# EAGLE library part MAX6960 (library maxim)
MAX6960 8x8 LED Contriller - Thin QFN no leads
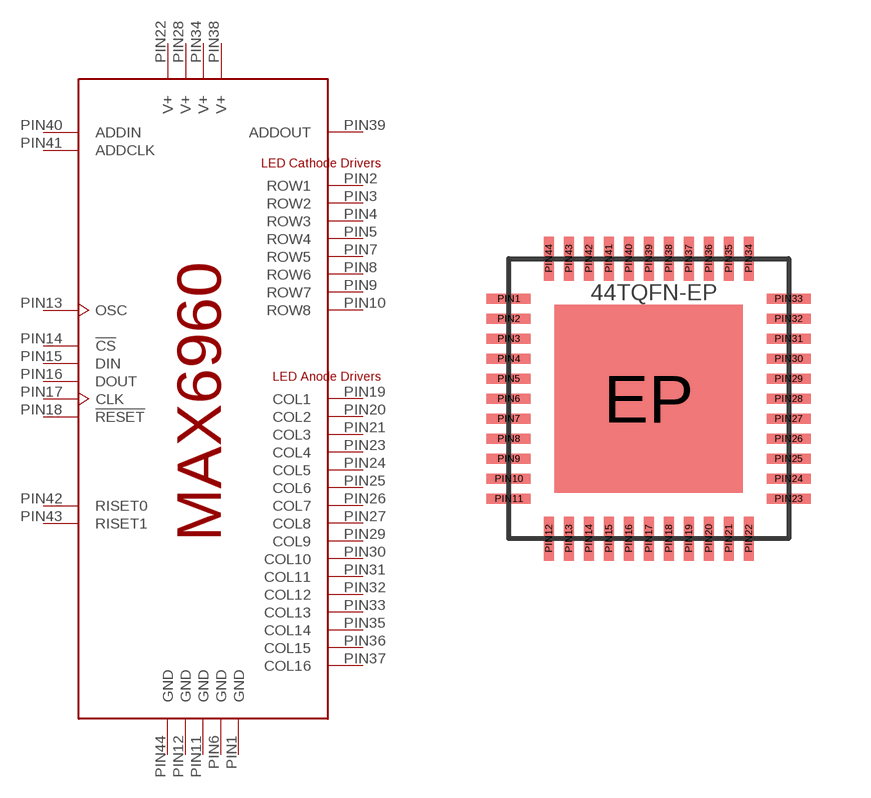
[diagram p0: symbol with the pads of 44TQFN-EP; footprint 44TQFN-EP]

Designator prefix -

## MAX6960  [44TQFN-EP]
PIN1  GND  pwr
PIN2  ROW1  out
PIN3  ROW2  out
PIN4  ROW3  out
PIN5  ROW4  out
PIN6  GND  pwr
PIN7  ROW5  out
PIN8  ROW6  out
PIN9  ROW7  out
PIN10  ROW8  out
PIN11  GND  pwr
PIN12  GND  pwr
PIN13  OSC  in
PIN14  !CS  in
PIN15  DIN  in
PIN16  DOUT  out
PIN17  CLK  in
PIN18  !RESET  in
PIN19  COL1  out
PIN20  COL2  out
PIN21  COL3  out
PIN22  V+  pwr
PIN23  COL4  out
PIN24  COL5  out
PIN25  COL6  out
PIN26  COL7  out
PIN27  COL8  out
PIN28  V+  pwr
PIN29  COL9  out
PIN30  COL10  out
PIN31  COL11  out
PIN32  COL12  out
PIN33  COL13  out
PIN34  V+  pwr
PIN35  COL14  out
PIN36  COL15  out
PIN37  COL16  out
PIN38  V+  pwr
PIN39  ADDOUT  out
PIN40  ADDIN  in
PIN41  ADDCLK
PIN42  RISET0  in
PIN43  RISET1  in
PIN44  GND  pwr

## Footprint 44TQFN-EP (pad centres in mm)
smd 4.7 x 4.7: EP 3.5,3.5
smd 1.1 x 0.25: PIN1 0,6; PIN2 0,5.5; PIN3 0,5; PIN4 0,4.5; PIN5 0,4; PIN6 0,3.5; PIN7 0,3; PIN8 0,2.5; PIN9 0,2; PIN10 0,1.5; PIN11 0,1; PIN23 7,1; PIN24 7,1.5; PIN25 7,2; PIN26 7,2.5; PIN27 7,3; PIN28 7,3.5; PIN29 7,4; PIN30 7,4.5; PIN31 7,5; PIN32 7,5.5; PIN33 7,6
smd 0.25 x 1.1: PIN12 1,0; PIN13 1.5,0; PIN14 2,0; PIN15 2.5,0; PIN16 3,0; PIN17 3.5,0; PIN18 4,0; PIN19 4.5,0; PIN20 5,0; PIN21 5.5,0; PIN22 6,0; PIN34 6,7; PIN35 5.5,7; PIN36 5,7; PIN37 4.5,7; PIN38 4,7; PIN39 3.5,7; PIN40 3,7; PIN41 2.5,7; PIN42 2,7; PIN43 1.5,7; PIN44 1,7